# Altium schematic symbol library Personal_Schematic_Library_2022.SchLib: 863 symbols (part 6 of 8)
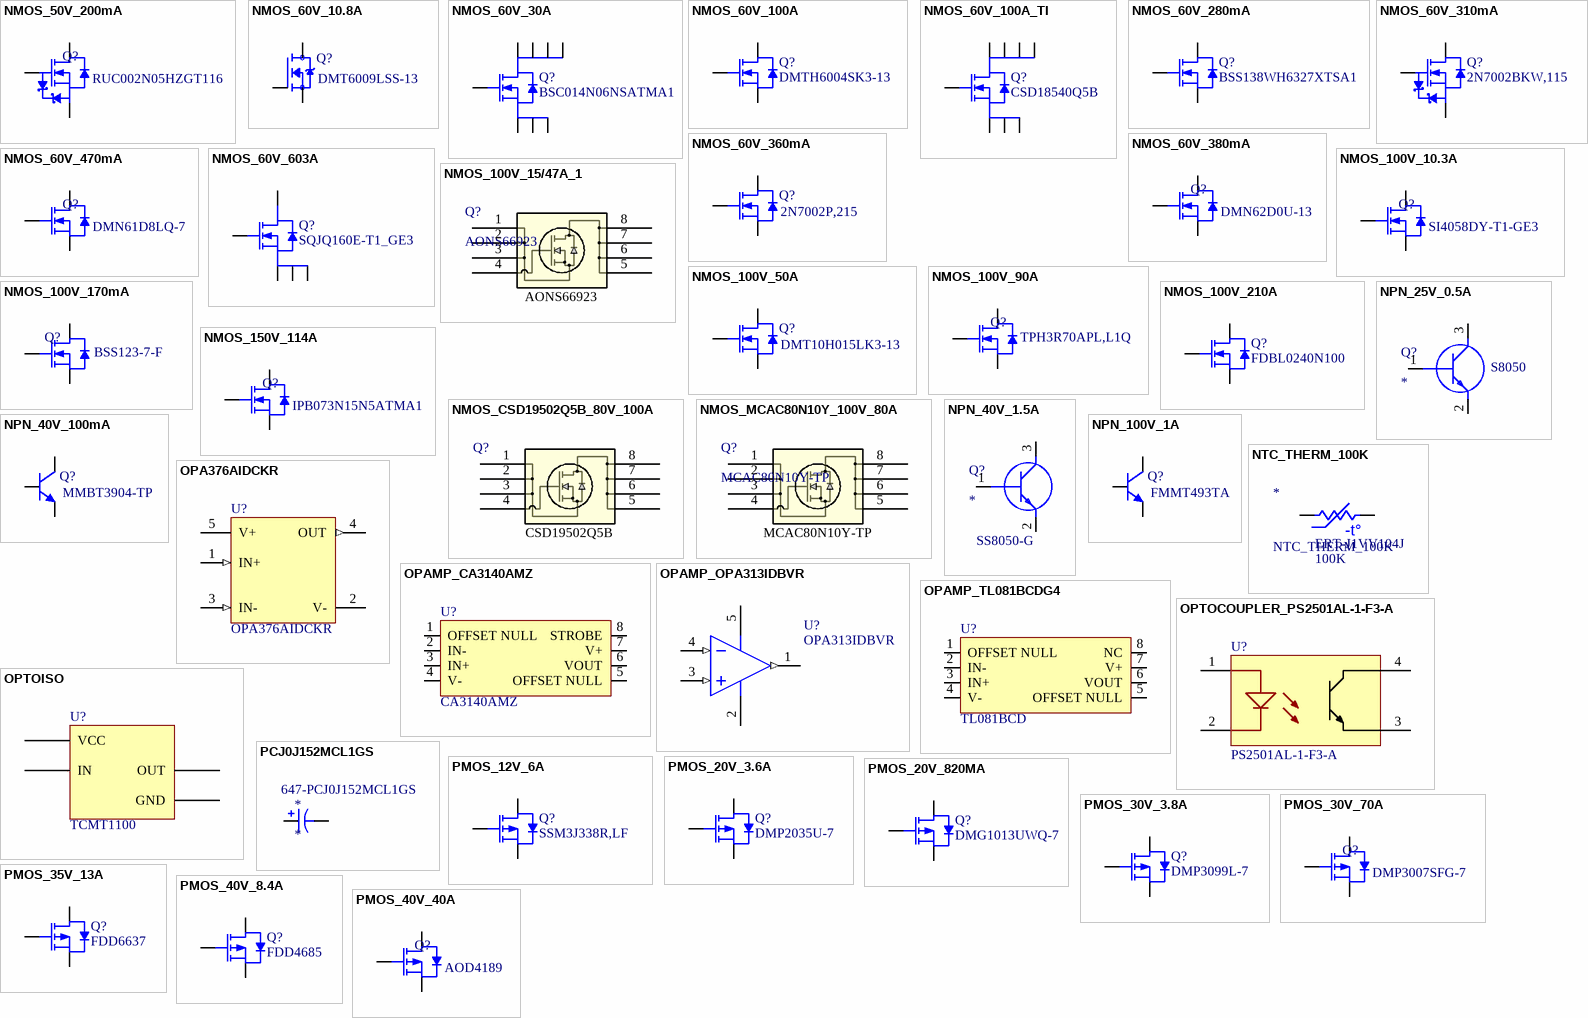
[diagram p34: symbols NMOS_50V_200mA to PMOS_40V_40A]

## NPN_100V_1A
designator Q?  Manufacturer Part Number 1: FMMT493TA
TRANS NPN 100V 1A SOT23-3; Manufacturer 1: Diodes Incorporated; Package: SOT-23-3; Supplier Part Number 1: FMMT493CT-ND; Supplier 1: Digi-Key
footprint SOT23-3 (SOT23, 3-Leads, Body 2.90x2.30mm, Pitch 0.95mm, IPC Medium Density)
pins: 1 B, 2 E, 3 C

## NTC_THERM_100K
designator *  value 100K  Manufacturer Part Number 1: ERT-J1VV104J
THERM NTC 100KOHM 4700K 0603; Manufacturer 1: Panasonic; Supplier Part Number 1: P10555CT-ND; Supplier 1: Digi-Key
footprint RESC0603(1608)_N (Chip Resistor, Body 1.6x0.8mm, IPC Medium Density)
pins: 1, 2
text: -t°

## OPA376AIDCKR
designator U?  Manufacturer Part Number 1: OPA376AIDCKR
IC OPAMP GP 1 CIRCUIT SC70-5; Manufacturer 1: Texas Instruments; Package/Footprint: 5-TSSOP; Operating Temperature: -40°C - 125°C; Supplier 1: Digi-Key; Supplier Part Number 1: 296-35916-1-ND
footprint TI_SC-70-5
pins: 1 IN+ (in), 2 V- (power), 3 IN- (in), 4 OUT (out), 5 V+ (power)

## OPAMP_CA3140AMZ
designator U?  Manufacturer Part Number 1: CA3140AMZ
IC OPAMP GP 1 CIRCUIT 8SOIC; Manufacturer 1: Renesas Electronics America Inc.; Supplier Part Number 1: CA3140AMZ-ND; Supplier 1: Digi-Key
footprint CA3140AMZ
pins: 1 OFFSET NULL, 2 IN-, 3 IN+, 4 V-, 5 OFFSET NULL, 6 VOUT, 7 V+, 8 STROBE

## OPAMP_OPA313IDBVR
designator U?  Manufacturer Part Number 1: OPA313IDBVR
IC OPAMP GP 1 CIRCUIT SOT23-5; Manufacturer 1: Texas Instruments; Package: SOT-23-5; Mounting Type: SMD; Supplier Part Number 1: 296-35607-1-ND; Supplier 1: Digi-Key; Verified: No
footprint DBV0005A_M (SOT23, 5-Leads, Body 3.05x1.75mm, Pitch 0.95mm, IPC Low Density)
pins: 1 OUT (out), 2 V- (power), 3 IN+ (in), 4 IN- (in), 5 V+ (power)

## OPAMP_TL081BCDG4
designator U?  Manufacturer Part Number 1: TL081BCD
IC OPAMP JFET 3MHZ 8SOIC; Manufacturer 1: Texas Instruments; Package/Footprint: 8-SOIC; Supplier Part Number 1: 296-34259-5-ND; Supplier 1: Digi-Key; Mounting Type: SMD; Verified: No
footprint TL081BCDG4
pins: 1 OFFSET NULL, 2 IN-, 3 IN+, 4 V-, 5 OFFSET NULL, 6 VOUT, 7 V+, 8 NC

## OPTOCOUPLER_PS2501AL-1-F3-A
designator U?  Manufacturer Part Number 1: PS2501AL-1-F3-A
OPTOISOLATOR 5KV TRANS 4SMD; Manufacturer 1: Renesas Electronics America Inc; Supplier 1: Digi-Key; Supplier Part Number 1: 559-1074-1-ND
footprint DIP-4L_REN
pins: 1 Anode "Low voltage source", 2 Cathode "High voltage signal in", 3 Emitter, 4 Collector "Low voltage signal out"

## OPTOISO
designator U?  Manufacturer Part Number 1: TCMT1100
OPTOISOLATOR 1 CHANNEL 4-SOP; Manufacturer 1: Vishay Semiconductor Opto Division; Supplier 1: Digi-Key; Supplier Part Number 1: TCMT1100TR-ND
footprint SOP-4L_TC
pins: 1 IN "High voltage signal in", 2 GND, 3 OUT "Low voltage signal out", 4 VCC "Low voltage source"

## PCJ0J152MCL1GS
designator *  Supplier Part Number 1: 647-PCJ0J152MCL1GS
Supplier 1: Mouser
footprint CAPAE1030X1080N
pins: 1, 2

## PMOS_12V_6A
designator Q?  Manufacturer Part Number 1: SSM3J338R,LF  (hidden comment: *)
MOSFET P-CH 12V 6A SOT23F; Manufacturer 1: Toshiba Semiconductor and Storage; Supplier 1: Digi-Key; Supplier Part Number 1: SSM3J338RLFCT-ND
footprint DIO-INC_SOT23
pins: 1 Gate, 2 Source, 3 Drain

## PMOS_20V_3.6A
designator Q?  Manufacturer Part Number 1: DMP2035U-7  (hidden comment: *)
MOSFET P-CH 20V 3.6A SOT23-3; Manufacturer 1: Diodes Incorporated; Supplier 1: Digi-Key; Supplier Part Number 1: DMP2035U-7DICT-ND
footprint DIO-INC_SOT23
pins: 1 Gate, 2 Source, 3 Drain

## PMOS_20V_820MA
designator Q?  Manufacturer Part Number 1: DMG1013UWQ-7
MOSFET P-CH 20V 820MA SOT323; Manufacturer 1: Diodes; Supplier 1: Digi-Key; Supplier Part Number 1: DMG1013UWQ-7DICT-ND
footprint SOT323
pins: 1 Drain, 2 Gate, 3 Source

## PMOS_30V_3.8A
designator Q?  Manufacturer Part Number 1: DMP3099L-7  (hidden comment: *)
MOSFET P-CH 30V 3.8A SOT23; Manufacturer 1: Diodes Incorporated; Supplier 1: Digi-Key; Supplier Part Number 1: DMP3099L-7DICT-ND
footprint DIO-INC_SOT23
pins: 1 Gate, 2 Source, 3 Drain

## PMOS_30V_70A
designator Q?  Manufacturer Part Number 1: DMP3007SFG-7
MOSFET P-CH 30V 70A POWERDI3333; Manufacturer 1: Diodes Incorporated; Vgs (Max): 25V; Power Dissipation (Max): 2.8W (Ta); Package/Footprint: PowerDI3333-8; Supplier 1: Digi-Key; Supplier Part Number 1: DMP3007SFG-7DICT-ND; Vdss: 30V; Mounting Type: SMD; Verified: No; Id: 70A
footprint DMP3007SFG-7
pins: 1 Drain, 2 Gate, 3 Source

## PMOS_35V_13A
designator Q?  Manufacturer Part Number 1: FDD6637
MOSFET P-CH 35V 13A DPAK; Manufacturer 1: ON Semiconductor / Fairchild; Rds On Max: 11.6mR; Input Capacitance: 2.37nF; Max Power Dissipation: 57W; Rise Time: 10ns; Fall Time: 36ns; Turn-Off Delay Time: 62ns; Turn-On Delay Time: 18ns; Gate to Source Voltage (Vgs): 25V; Element Configuration: Single; Number of Elements: 1; Power Dissipation: 3.1W; Drain to Source Breakdown Voltage: -35V; Threshold Voltage: -1.6V; Continuous Drain Current (ID): 55A; Supplier 1: Digi-Key; Number of Pins: 3; Drain to Source Voltage (Vdss): 35V; Drain to Source Resistance: 11.6mR; Nominal Vgs: -1.6V; On-State Resistance: 11.6MR; Supplier Part Number 1: FDD6637CT-ND
footprint D-PAK2 (TO-252AA)
pins: 1 Drain, 2 Gate, 3 Source

## PMOS_40V_8.4A
designator Q?  Manufacturer Part Number 1: FDD4685
MOSFET P-CH 40V 8.4A D-PAK; Manufacturer 1: ON Semiconductor / Fairchild; Vgs (Max): ±20V; Supplier 1: Digi-Key; Mounting Type: SMD; Package/Footprint: D-PAK; Supplier Part Number 1: FDD4685CT-ND; Current - Continuous Drain (Id) @ 25°C: 8.4A; Drain to Source Voltage (Vdss): 40V; Verified: No
footprint D-PAK (TO-252AA)
pins: 1 Drain, 2 Gate, 3 Source

## PMOS_40V_40A
designator Q?  Manufacturer Part Number 1: AOD4189
MOSFET P-CH 40V 40A TO252; Manufacturer 1: Alpha & Omega Semiconductor Inc.; Vgs (Max): 20V; Package/Footprint: D-Pak; Supplier 1: Digi-Key; Supplier Part Number 1: 785-1351-1-ND; Drain to Source Voltage (Vdss): 40V; Mounting Type: SMD; Verified: No; LCSC Part #: *; Id: 40A
footprint D-PAK (TO-252AA)
pins: 1 Drain, 2 Gate, 3 Source

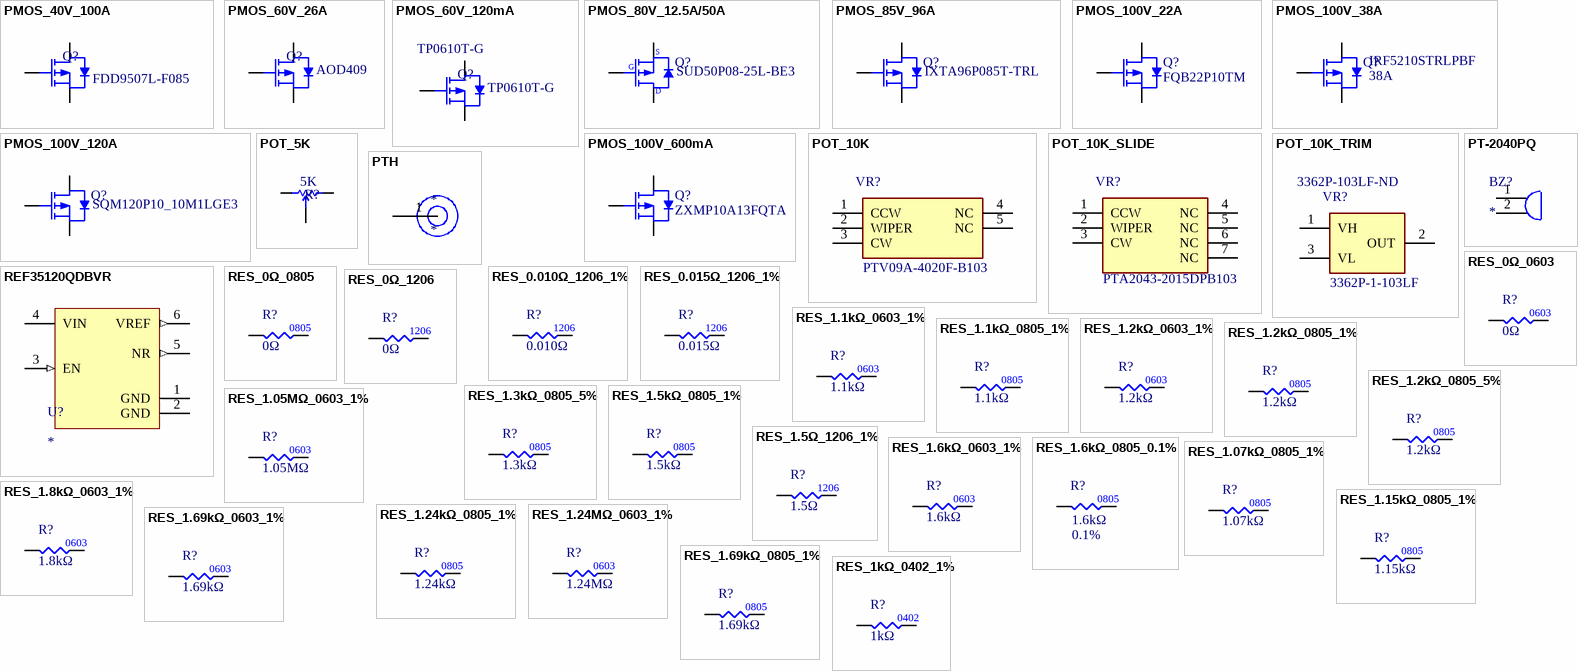
[diagram p20: symbols PMOS_40V_100A to RES_1kΩ_0402_1%]

## PMOS_40V_100A
designator Q?  Manufacturer Part Number 1: FDD9507L-F085
MOSFET P-CH 40V 100A D-PAK 4.4MOHM; Manufacturer 1: ON Semiconductor; Vgs (Max): 16V; Power Dissipation (Max): 227W; Supplier 1: Digi-Key; Supplier Part Number 1: FDD9507L-F085OSCT-ND; Vdss: 40V; Package/Footprint: D-PAK; Mounting Type: SMD; Verified: No; Id: 100A
footprint D-PAK (TO-252AA)
pins: 1 Drain, 2 Gate, 3 Source

## PMOS_60V_26A
designator Q?  Manufacturer Part Number 1: AOD409
MOSFET P-CH 60V 26A TO252; Manufacturer 1: Alpha & Omega Semiconductor Inc.; Vgs (Max): ±20V; Vdss: 60V; Mounting Type: SMD; Id: 26A; Supplier 1: Digi-Key; Supplier Part Number 1: 785-1103-1-ND
footprint TO-252 AOSMD
pins: 1 Gate, 2 Drain, 3 Source

## PMOS_60V_120mA
designator Q?  Manufacturer Part Number 1: TP0610T-G
MOSFET P-CH 60V 120MA TO236AB; Manufacturer 1: Microchip Technology; Vgs (Max): ±20V; Package/Footprint: SOT-23; Vdss: 60V; Mounting Type: SMD; Id: 120mA; Supplier 1: Arrow Electronics; Supplier Part Number 1: TP0610T-G
footprint SOT23-3 (SOT23, 3-Leads, Body 2.90x2.30mm, Pitch 0.95mm, IPC Medium Density)
pins: 1 Gate, 2 Source, 3 Drain

## PMOS_80V_12.5A/50A
designator Q?  Manufacturer Part Number 1: SUD50P08-25L-BE3
MOSFET P-CH 80V 12.5A/50A DPAK; Manufacturer 1: Vishay Siliconix; Package/Footprint: TO-252AA; Id: 50A; Vgs (Max): ±20V; Mounting Type: SMD; Vdss: 80V; Supplier 1: Digi-Key; Supplier Part Number 1: 742-SUD50P08-25L-BE3CT-ND
footprint TO-252AA VISHAY
pins: 1 G, 2 D, 3 S

## PMOS_85V_96A
designator Q?  Manufacturer Part Number 1: IXTA96P085T-TRL
MOSFET P-CH 85V 96A TO263; Manufacturer 1: IXYS; Package/Footprint: TO-263AA; Vgs (Max): ±15V; Mounting Type: SMD; Verified: No; Supplier 1: Digi-Key; Supplier Part Number 1: IXTA96P085T-TRLCT-ND; Id: 96A; Vdss: 85V
footprint D-PAK (TO-252AA)
pins: 1 Drain, 2 Gate, 3 Source

## PMOS_100V_22A
designator Q?  Manufacturer Part Number 1: FQB22P10TM
MOSFET P-CH 100V 22A D2PAK; Manufacturer 1: ON Semiconductor / Fairchild; Supplier Part Number 1: FQB22P10TMCT-ND; Package/Footprint: D2PAK; Supplier 1: Digi-Key; Mounting Type: SMD; Verified: No
simulation model PMOS (MOSFET-P)
footprint SOT404
pins: 1 Drain, 2 Gate, 3 Source

## PMOS_100V_38A
designator Q?  Current - Continous Drain: 38A  Manufacturer Part Number 1: IRF5210STRLPBF
MOSFET P-CH 100V 38A D2PAK; Manufacturer 1: Vishay Siliconix; Vgs (Max): ±15V; Id: 120A; Mounting Type: SMD; Verified: No; Vdss: 100V; Supplier 1: Digi-Key; Supplier Part Number 1: IRF5210STRLPBFCT-ND; Package/Footprint: D2Pak
footprint DPAK5_PMOS_FOOTPRINT
pins: 1 Gate, 2 Drain, 3 Source

## PMOS_100V_120A
designator Q?  Manufacturer Part Number 1: SQM120P10_10M1LGE3
MOSFET P-CH 100V 120A TO263; Manufacturer 1: Vishay Siliconix; Package/Footprint: TO-263; Vgs (Max): ±15V; Mounting Type: SMD; Verified: No; Id: 120A; Vdss: 100V; Supplier 1: Digi-Key; Supplier Part Number 1: IXTA96P085T-ND
footprint D-PAK (TO-252AA)
pins: 1 Drain, 2 Gate, 3 Source

## PMOS_100V_600mA
designator Q?  Manufacturer Part Number 1: ZXMP10A13FQTA
MOSFET P-CH 100V 600MA SOT23; Manufacturer 1: Diodes Incorporated; Package/Footprint: SOT-23-3; Supplier Part Number 1: ZXMP10A13FQTADICT-ND; Supplier 1: Digi-Key; Mounting Type: SMD
footprint SOT23-3 (SOT23, 3-Leads, Body 2.90x2.30mm, Pitch 0.95mm, IPC Medium Density)
pins: 1 Gate, 2 Source, 3 Drain

## POT_5K
designator R?  value 5K
TRIMMER 5K OHM 0.5W PC PIN TOP; Manufacturer Part Number 1: 3362P-1-502LF; Manufacturer 1: Bourns Inc.; Supplier Part Number 1: 3362P-502LF-ND; Supplier 1: Digi-Key
signal-integrity model Res
footprint 3362P-1-502LF
pins: 1, 2, 3

## POT_10K
designator VR?  Manufacturer Part Number 1: PTV09A-4020F-B103
POT 10K OHM 1/20W CARBON LINEAR; Manufacturer 1: Bourns; Supplier 1: Digi-Key; Supplier Part Number 1: PTV09A-4020F-B103-ND
footprint PTV09A4020FB103
pins: 1 CCW, 2 WIPER, 3 CW, 4 NC, 5 NC

## POT_10K_SLIDE
designator VR?  Manufacturer Part Number 1: PTA2043-2015DPB103
SLIDE POT 10K OHM 0.1W TOP 20MM; Manufacturer 1: Bourns; Supplier 1: Digi-Key; Supplier Part Number 1: PTA2043-2015DPB103-ND
footprint PTA20432015CPB103
pins: 1 CCW, 2 WIPER, 3 CW, 4 NC, 5 NC, 6 NC, 7 NC

## POT_10K_TRIM
designator VR?  Manufacturer Part Number 1: 3362P-1-103LF  Supplier Part Number 1: 3362P-103LF-ND
TRIMMER 10K OHM 0.5W PC PIN TOP; Manufacturer 1: Bourns Inc.; Resistance: 10kΩ; Supplier 1: DigiKey
footprint TRIMPOT_3362
pins: 1 VH, 2 OUT, 3 VL

## PT-2040PQ
designator BZ?
Loudspeaker or Buzzer; Manufacturer_Name: Mallory Sonalert; Manufacturer_Part_Number: PT-2040PQ; Datasheet Link: https://datasheet.datasheetarchive.com/originals/distributors/SFDatasheet-1/sf-00027599.pdf; Height: 9.4mm; Mouser Part Number: 539-PT2040PQ; Mouser Price/Stock: https://www.mouser.co.uk/ProductDetail/Mallory-Sonalert/PT-2040PQ?qs=l%2Fkuw%2F8%252BD9j2AVf7eGaf%252BA%3D%3D
footprint PT2040PQ
pins: 1, 2

## PTH
designator *
footprint PTH (Plated Through Hole)
pins: 1

## REF35120QDBVR
designator U?
IC VREF SERIES 1.2V SOT23-6; Manufacturer 1: Texas Instruments; Manufacturer Part Number 1: REF35120QDBVR; Package/Footprint: SOT-23-6; Supplier 1: Digi-Key; Supplier Part Number 1: 296-REF35120QDBVRCT-ND; LCSC Part #: C5722646
footprint SOT23-6 (SOT23, 6-Leads, Body 3.05x1.75mm, Pitch 0.95mm, IPC Medium Density)
pins: 1 GND (power), 2 GND (power), 3 EN (in), 4 VIN (power), 5 NR (out), 6 VREF (out)

## RES_0.010Ω_1206_1%
designator R?  value 0.010Ω
RES 0.01 OHM 1% 1/2W 1206; Manufacturer 1: Stackpole Electronics Inc; Manufacturer Part Number 1: CSR1206FT10L0; Package/Footprint: 1206; Mounting Type: SMD; Supplier 1: Digi-Key; Supplier Part Number 1: CSR1206FT10L0CT-ND
footprint RES1206 (Chip Resistor, Body 3.2x1.6mm, IPC Medium Density)
pins: 1, 2

## RES_0.015Ω_1206_1%
designator R?  value 0.015Ω
RES 0.015 OHM 1% 1/2W 1206; Manufacturer 1: Rohm Semiconductor; Manufacturer Part Number 1: UCR18EVHFSR015; Supplier 1: Digi-Key; Supplier Part Number 1: RHM1305CT-ND; Package: 1206
footprint RES1206 (Chip Resistor, Body 3.2x1.6mm, IPC Medium Density)
pins: 1, 2

## RES_0Ω_0603
designator R?  value 0Ω
RES 0 OHM JUMPER 1/10W 0603; Manufacturer 1: Yageo; Manufacturer Part Number 1: RC0603JR-070RL; Supplier Part Number 1: 311-0.0GRCT-ND; Supplier 1: Digi-Key; Mounting Type: SMD; Package: 0603
footprint RES0603 (Chip Resistor, Body 1.6x0.8mm, IPC Medium Density)
pins: 1, 2

## RES_0Ω_0805
designator R?  value 0Ω
RES SMD 0 OHM JUMPER 1/2W 0805 (20A RATED); Manufacturer 1: Keystone Electronics; Manufacturer Part Number 1: 5106; Package/Footprint: 0805; Supplier Part Number 1: 36-5106CT-ND; Supplier 1: Digi-Key; Mounting Type: SMD
footprint RES0805 (Chip Resistor, 2-Leads, Body 2.00x1.25mm, IPC High Density)
pins: 1, 2

## RES_0Ω_1206
designator R?  value 0Ω
RES 0 OHM JUMPER 1/10W 1206; Manufacturer 1: Yageo; Manufacturer Part Number 1: RC1206JR-070RL; Package/Footprint: 1206; Supplier Part Number 1: 311-0.0ERCT-ND; Supplier 1: Digi-Key; Mounting Type: SMD
footprint RES1206 (Chip Resistor, Body 3.2x1.6mm, IPC Medium Density)
pins: 1, 2

## RES_1.1kΩ_0603_1%
designator R?  value 1.1kΩ
RES 1.1K OHM 1% 1/10W 0603; Manufacturer 1: Yageo; Manufacturer Part Number 1: RC0603FR-071K1L; Supplier Part Number 1: 311-1.10KHRCT-ND; Supplier 1: Digi-Key; Mounting Type: SMD; Package: 0603
footprint RES0603 (Chip Resistor, Body 1.6x0.8mm, IPC Medium Density)
pins: 1, 2

## RES_1.1kΩ_0805_1%
designator R?  value 1.1kΩ
RES 1.1K OHM 1% 1/8W 0805; Manufacturer 1: Yageo; Manufacturer Part Number 1: RC0805FR-071K1L; Supplier 1: Digi-Key; Supplier Part Number 1: 311-1.10KCRCT-ND
footprint RES0805 (Chip Resistor, 2-Leads, Body 2.00x1.25mm, IPC High Density)
pins: 1, 2
text: 0805

## RES_1.2kΩ_0603_1%
designator R?  value 1.2kΩ
RES 1.2K OHM 1% 1/10W 0603; Manufacturer 1: Yageo; Manufacturer Part Number 1: RC0603FR-071K2L; Supplier 1: Digi-Key; Supplier Part Number 1: 311-1.20KHRCT-ND; Package: 0603
footprint RES0603 (Chip Resistor, Body 1.6x0.8mm, IPC Medium Density)
pins: 1, 2

## RES_1.2kΩ_0805_1%
designator R?  value 1.2kΩ
RES 1.2K OHM 1% 1/8W 0805; Manufacturer 1: Samsung Electro-Mechanics; Manufacturer Part Number 1: RC2012F122CS; Supplier 1: Digi-Key; Supplier Part Number 1: 1276-5275-2-ND; Package: 0805
footprint RES0805 (Chip Resistor, 2-Leads, Body 2.00x1.25mm, IPC High Density)
pins: 1, 2

## RES_1.2kΩ_0805_5%
designator R?  value 1.2kΩ
RES 1.2K OHM 5% 1/8W 0805; Manufacturer 1: Yageo; Manufacturer Part Number 1: RC0805JR-071K2L; Supplier 1: Digi-Key; Supplier Part Number 1: 311-1.2KARCT-ND; Tolerance: 5%; Package: 0805
footprint RES0805 (Chip Resistor, 2-Leads, Body 2.00x1.25mm, IPC High Density)
pins: 1, 2
1 alternate drawing of the same symbol

## RES_1.3kΩ_0805_5%
designator R?  value 1.3kΩ
RES 1.3K OHM 5% 1/8W 0805; Manufacturer 1: Yageo; Manufacturer Part Number 1: RC0805JR-071K3L; Supplier 1: Digi-Key; Supplier Part Number 1: 311-1.3KARCT-ND; Tolerance: 5%; Package: 0805
footprint RES0805 (Chip Resistor, 2-Leads, Body 2.00x1.25mm, IPC High Density)
pins: 1, 2
1 alternate drawing of the same symbol

## RES_1.5kΩ_0805_1%
designator R?  value 1.5kΩ
RES 1.5K OHM 1% 1/4W 0805; Manufacturer Part Number 1: RC0805FR-071K5L; Manufacturer 1: Stackpole Electronics Inc; Power: 0.125W, 1/8W; Supplier 1: Digi-Key; Supplier Part Number 1: 311-1.50KCRCT-ND; Mounting Type: SMD; Package: 0805; Tolerance: 1%
footprint RES0805 (Chip Resistor, 2-Leads, Body 2.00x1.25mm, IPC High Density)
pins: 1, 2

## RES_1.05MΩ_0603_1%
designator R?  value 1.05MΩ
RES SMD 1.05M OHM 1% 1/10W 0603; Manufacturer 1: Stackpole Electronics Inc; Manufacturer Part Number 1: RMCF0603FT1M05; Supplier Part Number 1: RMCF0603FT1M05CT-ND; Supplier 1: Digi-Key; Mounting Type: SMD; Package: 0603
footprint RES0603 (Chip Resistor, Body 1.6x0.8mm, IPC Medium Density)
pins: 1, 2

## RES_1.5Ω_1206_1%
designator R?  value 1.5Ω
RES 1.5 OHM 1% 1/4W 1206; Manufacturer Part Number 1: RMCF1206FT1R50; Manufacturer 1: Stackpole Electronics Inc; Supplier 1: Digi-Key; Supplier Part Number 1: RMCF1206FT1R50CT-ND; Mounting Type: SMD; Power: 1/4W; Package: 1206; Tolerance: 1%
footprint RES1206 (Chip Resistor, Body 3.2x1.6mm, IPC Medium Density)
pins: 1, 2

## RES_1.6kΩ_0603_1%
designator R?  value 1.6kΩ
RES 1.6K OHM 1% 1/4W 0603; Manufacturer 1: Panasonic; Manufacturer Part Number 1: ERJ-PA3F1601V; Supplier 1: Digi-Key; Supplier Part Number 1: P1.6KBYCT-ND; Mounting Type: SMD; Package: 0603
footprint RES0603 (Chip Resistor, Body 1.6x0.8mm, IPC Medium Density)
pins: 1, 2

## RES_1.6kΩ_0805_0.1%
designator R?  value 1.6kΩ  Tolerance: 0.1%
RES 1.6K OHM 0.1% 1/4W 0805; Manufacturer 1: Panasonic; Manufacturer Part Number 1: ERJ-PB6B1601V; Supplier 1: Digi-Key; Supplier Part Number 1: P20615CT-ND; Mounting Type: SMD
footprint RES0805 (Chip Resistor, 2-Leads, Body 2.00x1.25mm, IPC High Density)
pins: 1, 2
text: 0805

## RES_1.07kΩ_0805_1%
designator R?  value 1.07kΩ
RES 1.07K OHM 1% 1/8W 0805; Manufacturer 1: Yageo; Manufacturer Part Number 1: RC0805FR-071K07L; Supplier 1: Digi-Key; Mounting Type: SMD; Supplier Part Number 1: 311-1.07KCRCT-ND; Package: 0805
footprint RES0805 (Chip Resistor, 2-Leads, Body 2.00x1.25mm, IPC High Density)
pins: 1, 2

## RES_1.8kΩ_0603_1%
designator R?  value 1.8kΩ
RES 1.8K OHM 1% 1/10W 0603; Manufacturer 1: Yageo; Manufacturer Part Number 1: RC0603FR-071K8L; Package: 0603; Supplier 1: Digikey; Supplier Part Number 1: 311-1.80KHRCT-ND
footprint RES0603 (Chip Resistor, Body 1.6x0.8mm, IPC Medium Density)
pins: 1, 2

## RES_1.15kΩ_0805_1%
designator R?  value 1.15kΩ
RES 1.15K OHM 1% 1/8W 0805; Manufacturer 1: Yageo; Manufacturer Part Number 1: RC0805FR-071K15L; Package/Footprint: 0805; Mounting Type: SMD; Supplier 1: Digi-Key; Supplier Part Number 1: 311-1.15KCRCT-ND
footprint RES0805 (Chip Resistor, 2-Leads, Body 2.00x1.25mm, IPC High Density)
pins: 1, 2

## RES_1.24kΩ_0805_1%
designator R?  value 1.24kΩ
RES 1.24K OHM 1% 1/8W 0805; Manufacturer 1: Stackpole Electronics Inc; Manufacturer Part Number 1: RMCF0805FT1K24; Package/Footprint: 0805; Mounting Type: SMD; Supplier 1: Digi-Key; Supplier Part Number 1: RMCF0805FT1K24CT-ND
footprint RES0805 (Chip Resistor, 2-Leads, Body 2.00x1.25mm, IPC High Density)
pins: 1, 2

## RES_1.24MΩ_0603_1%
designator R?  value 1.24MΩ
RES 1.24M OHM 1% 1/16W 0402; Manufacturer 1: Stackpole Electronics Inc; Manufacturer Part Number 1: RMCF0402FT1M24; Package: 0603; Supplier 1: Digi-Key; Supplier Part Number 1: RMCF0402FT1M24CT-ND
footprint RES0603 (Chip Resistor, Body 1.6x0.8mm, IPC Medium Density)
pins: 1, 2

## RES_1.69kΩ_0603_1%
designator R?  value 1.69kΩ
RES 1.69K OHM 1% 1/10W 0603; Manufacturer 1: Yageo; Manufacturer Part Number 1: RC0603FR-071K69L; Supplier 1: Digi-Key; Supplier Part Number 1: 311-1.69KHRCT-ND
footprint RES0603 (Chip Resistor, Body 1.6x0.8mm, IPC Medium Density)
pins: 1, 2
text: 0603

## RES_1.69kΩ_0805_1%
designator R?  value 1.69kΩ
RES 1.69K OHM 1% 1/8W 0805; Manufacturer 1: Stackpole Electronics Inc; Manufacturer Part Number 1: RMCF0805FT1K69; Supplier 1: Digi-Key; Supplier Part Number 1: RMCF0805FT1K69CT-ND; Mounting Type: SMD; LCSC Part #: C48183; Package: 0805
footprint RES0805 (Chip Resistor, 2-Leads, Body 2.00x1.25mm, IPC High Density)
pins: 1, 2

## RES_1kΩ_0402_1%
designator R?  value 1kΩ
RES 1K OHM 1% 1/16W 0402; Manufacturer 1: Stackpole Electronics; Manufacturer Part Number 1: RMCF0402FT1K00; Supplier 1: Digi-Key; Supplier Part Number 1: RMCF0402FT1K00CT-ND; Tolerance: 1%; Package: 0402
footprint RES0402
pins: 1, 2

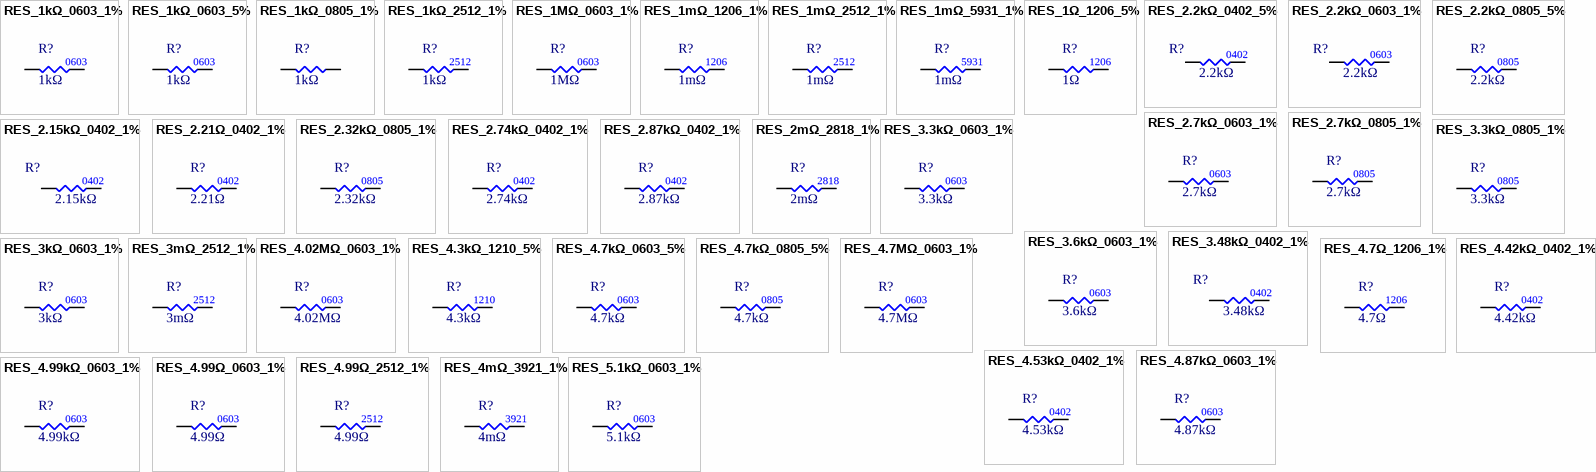
[diagram p21: symbols RES_1kΩ_0603_1% to RES_5.1kΩ_0603_1%]

## RES_1kΩ_0603_1%
designator R?  value 1kΩ
RES 1K OHM 1% 1/8W 0603; Manufacturer 1: Stackpole Electronics Inc; Manufacturer Part Number 1: RNCP0603FTD1K00; Supplier Part Number 1: RNCP0603FTD1K00CT-ND; Supplier 1: Digi-Key; Mounting Type: SMD; Package: 0603
footprint RES0603 (Chip Resistor, Body 1.6x0.8mm, IPC Medium Density)
pins: 1, 2

## RES_1kΩ_0603_5%
designator R?  value 1kΩ
RES 1K OHM 5% 1/10W 0603; Manufacturer 1: Yageo; Manufacturer Part Number 1: RC0603JR-071KL; Supplier Part Number 1: 311-1.0KGRCT-ND; Supplier 1: Digi-Key; Mounting Type: SMD; Package: 0603
footprint RES0603 (Chip Resistor, Body 1.6x0.8mm, IPC Medium Density)
pins: 1, 2

## RES_1kΩ_0805_1%
designator R?  value 1kΩ
RES 1K OHM 1% 1/8W 0805; Manufacturer 1: Stackpole Electronics Inc; Manufacturer Part Number 1: RMCF0805FT1K00; Mounting Type: SMD; Package: 0805; Supplier 1: Digi-Key; Supplier Part Number 1: RMCF0805FT1K00CT-ND
footprint RES0805 (Chip Resistor, 2-Leads, Body 2.00x1.25mm, IPC High Density)
pins: 1, 2

## RES_1kΩ_2512_1%
designator R?  value 1kΩ
RES SMD 1K OHM 1% 3W 2512; Manufacturer 1: TE Connectivity Passive Product; Manufacturer Part Number 1: 35221K0FT; Supplier Part Number 1: A121161CT-ND; Supplier 1: Digi-Key; Mounting Type: SMD; Package: 2512
footprint RES2512
pins: 1, 2

## RES_1MΩ_0603_1%
designator R?  value 1MΩ
RES 1M OHM 1% 1/10W 0603; Manufacturer 1: YAGEO; Manufacturer Part Number 1: RC0603FR-071ML; Supplier Part Number 1: 311-1.00MHRCT-ND; Supplier 1: Digi-Key; Mounting Type: SMD; Package: 0603
footprint RES0603 (Chip Resistor, Body 1.6x0.8mm, IPC Medium Density)
pins: 1, 2

## RES_1mΩ_1206_1%
designator R?  value 1mΩ
RES 0.001 OHM 1% 1W 1206; Manufacturer 1: Delta Electronics/Cyntec; Manufacturer Part Number 1: RL1632T4F-R001-FNH; Package/Footprint: 1206; Mounting Type: SMD; Supplier 1: Digi-Key; Supplier Part Number 1: 2037-RL1632T4F-R001-FNHCT-ND
footprint RESC160320X70-RL1632T4F-R001-FNH
pins: 1, 2

## RES_1mΩ_2512_1%
designator R?  value 1mΩ
RES 1 mOHM 1% 3W 2512; Manufacturer 1: Riedon; Manufacturer Part Number 1: CSRL3-0R001F8; Supplier 1: Digi-Key; Supplier Part Number 1: 696-1834-1-ND; Mounting Type: SMD; Package: 2512
footprint RESC6532X75N
pins: 1, 2

## RES_1mΩ_5931_1%
designator R?  value 1mΩ
RES 0.001 OHM 1% 10W 5931; Manufacturer 1: Vishay Dale; Manufacturer Part Number 1: WSLP59311L000FEA; Supplier Part Number 1: 541-10012-1-ND; Supplier 1: Digi-Key; Mounting Type: SMD; Package: 5931
footprint RES-5931
pins: 1, 2

## RES_1Ω_1206_5%
designator R?  value 1Ω
RES 1 OHM 5% 1/4W 1206; Manufacturer 1: KOA Speer Electronics, Inc.; Manufacturer Part Number 1: RK73B2BTTE1R0J; Supplier 1: Digi-Key; Supplier Part Number 1: 2019-RK73B2BTTE1R0JCT-ND; Mounting Type: SMD; Package: 1206
footprint RES1206 (Chip Resistor, Body 3.2x1.6mm, IPC Medium Density)
pins: 1, 2

## RES_2.2kΩ_0402_5%
designator R?  value 2.2kΩ
RES 2.2K OHM 5% 1/10W 0402; Manufacturer 1: Panasonic Electronic Components; Manufacturer Part Number 1: ERJ-2GEJ222X; Supplier Part Number 1: P2.2KJCT-ND; Supplier 1: Digi-Key; Mounting Type: SMD; Package: 0402
footprint RES0402 (Chip Resistor, Body 1x0.5mm, IPC Medium Density)
pins: 1, 2

## RES_2.2kΩ_0603_1%
designator R?  value 2.2kΩ
RES 2.2K OHM 1% 1/10W 0603; Manufacturer 1: Yageo; Manufacturer Part Number 1: RC0603FR-072K2L; Supplier Part Number 1: 311-2.20KHRCT-ND; Supplier 1: Digi-Key; Mounting Type: SMD; Package: 0603
footprint RES0603 (Chip Resistor, Body 1.6x0.8mm, IPC Medium Density)
pins: 1, 2

## RES_2.2kΩ_0805_5%
designator R?  value 2.2kΩ
RES 2.2K OHM 5% 1/8W 0805; Manufacturer 1: Vishay Dale; Manufacturer Part Number 1: CRCW08052K20JNEAC; Supplier 1: Digi-Key; Supplier Part Number 1: 541-4169-1-ND; Tolerance: 5%; Package: 0805
footprint RES0805 (Chip Resistor, 2-Leads, Body 2.00x1.25mm, IPC High Density)
pins: 1, 2
1 alternate drawing of the same symbol

## RES_2.7kΩ_0603_1%
designator R?  value 2.7kΩ
RES 2.7K OHM 1% 1/10W 0603; Manufacturer 1: Yageo; Manufacturer Part Number 1: AC0603FR-072K7L; Supplier 1: Digi-Key; Supplier Part Number 1: YAG3589CT-ND
footprint RES0603 (Chip Resistor, Body 1.6x0.8mm, IPC Medium Density)
pins: 1, 2
text: 0603

## RES_2.7kΩ_0805_1%
designator R?  value 2.7kΩ
RES 2.7K OHM 1% 1/8W 0805; Manufacturer 1: Panasonic Electronic Components; Manufacturer Part Number 1: ERJ-6ENF2701V; Supplier 1: Digi-Key; Supplier Part Number 1: P2.70KCCT-ND; Mounting Type: SMD; LCSC Part #: C17530; Package: 0805
footprint RES0805 (Chip Resistor, 2-Leads, Body 2.00x1.25mm, IPC High Density)
pins: 1, 2

## RES_2.15kΩ_0402_1%
designator R?  value 2.15kΩ
RES 2.15K OHM 1% 1/16W 0402; Manufacturer Part Number 1: RC0402FR-072K15L; Manufacturer 1: Yageo; Power: 0.063W, 1/16W; Package/Footprint: 0402; Supplier 1: Digi-Key; Supplier Part Number 1: YAG3097CT-ND; Mounting Type: SMD; Tolerance: 1%
footprint RES0402 (Chip Resistor, Body 1x0.5mm, IPC Medium Density)
pins: 1, 2

## RES_2.21Ω_0402_1%
designator R?  value 2.21Ω
RES 2.21 OHM 1% 1/16W 0402; Manufacturer Part Number 1: RMCF0402FT2R21; Manufacturer 1: Yageo; Power: 0.063W, 1/16W; Package/Footprint: 0402; Supplier 1: Digi-Key; Supplier Part Number 1: RMCF0402FT2R21CT-ND; Mounting Type: SMD; Tolerance: 1%
footprint RES0402 (Chip Resistor, Body 1x0.5mm, IPC Medium Density)
pins: 1, 2

## RES_2.32kΩ_0805_1%
designator R?  value 2.32kΩ
RES 2.32K OHM 1% 1/4W 0805; Manufacturer 1: Stackpole Electronics Inc; Manufacturer Part Number 1: RNCP0805FTD2K32; Supplier 1: Digi-Key; Supplier Part Number 1: RNCP0805FTD2K32CT-ND; Package: 0805
footprint RES0805 (Chip Resistor, 2-Leads, Body 2.00x1.25mm, IPC High Density)
pins: 1, 2

## RES_2.74kΩ_0402_1%
designator R?  value 2.74kΩ
RES 2.74K OHM 1% 1/16W 0402; Manufacturer Part Number 1: RMCF0402FT2K74; Manufacturer 1: Stackpole Electronics Inc; Power: 0.063W, 1/16W; Package/Footprint: 0402; Supplier 1: Digi-Key; Supplier Part Number 1: RMCF0402FT2K74CT-ND; Mounting Type: SMD; Tolerance: 1%
footprint RES0402 (Chip Resistor, Body 1x0.5mm, IPC Medium Density)
pins: 1, 2

## RES_2.87kΩ_0402_1%
designator R?  value 2.87kΩ
RES SMD 2.87K OHM 1% 1/16W 0402; Manufacturer 1: Yageo; Manufacturer Part Number 1: RC0402FR-072K87L; Package/Footprint: 0402; Supplier 1: Digi-Key; Supplier Part Number 1: YAG3105CT-ND; Tolerance: 1%
footprint RES0402 (Chip Resistor, Body 1x0.5mm, IPC Medium Density)
pins: 1, 2

## RES_2mΩ_2818_1%
designator R?  value 2mΩ
RES 0.002 OHM 1% 10W 2818; Manufacturer 1: Vishay Dale; Manufacturer Part Number 1: WSHP28182L000FEA; Supplier 1: Digi-Key; Supplier Part Number 1: 541-3273-1-ND
footprint RES2812_VISHAY
pins: 1, 2
text: 2818

## RES_3.3kΩ_0603_1%
designator R?  value 3.3kΩ
RES 3.3K OHM 1% 1/10W 0603; Manufacturer 1: Yageo; Manufacturer Part Number 1: RT0603FRE073K3L; Supplier 1: Digi-Key; Supplier Part Number 1: YAG3354CT-ND; Mounting Type: SMD; Package: 0603
footprint RES0603 (Chip Resistor, Body 1.6x0.8mm, IPC Medium Density)
pins: 1, 2

## RES_3.3kΩ_0805_1%
designator R?  value 3.3kΩ
RES 3.3K OHM 1% 1/8W 0805; Manufacturer 1: Vishay Dale; Manufacturer Part Number 1: CRCW06033K30FKEA; Mounting Type: SMD; Supplier 1: Digi-Key; Supplier Part Number 1: 541-3.30KHCT-ND; LCSC Part #: C26010; Package: 0805
footprint RES0805 (Chip Resistor, 2-Leads, Body 2.00x1.25mm, IPC High Density)
pins: 1, 2

## RES_3.6kΩ_0603_1%
designator R?  value 3.6kΩ
RES 3.6K OHM 1% 1/10W 0603; Manufacturer 1: Yageo; Manufacturer Part Number 1: RC0603FR-073K6L; Mounting Type: SMD; Package: 0603; Supplier 1: Digi-Key; Supplier Part Number 1: 311-3.60KHRCT-ND
footprint RES0603 (Chip Resistor, Body 1.6x0.8mm, IPC Medium Density)
pins: 1, 2

## RES_3.48kΩ_0402_1%
designator R?  value 3.48kΩ
RES 3.48K OHM 1% 1/16W 0402; Manufacturer Part Number 1: RC0402FR-073K48L; Manufacturer 1: Vishay Dale; Power: 0.063W, 1/16W; Supplier 1: Digi-Key; Supplier Part Number 1: YAG3148CT-ND; Mounting Type: SMD; Package: 0402; Tolerance: 1%
footprint RES0402 (Chip Resistor, Body 1x0.5mm, IPC Medium Density)
pins: 1, 2

## RES_3kΩ_0603_1%
designator R?  value 3kΩ
RES 3K OHM 1% 1/10W 0603; Manufacturer 1: Yageo; Manufacturer Part Number 1: RC0603FR-073KL; Supplier 1: Digi-Key; Supplier Part Number 1: 311-3.00KHRCT-ND
footprint RES0603 (Chip Resistor, Body 1.6x0.8mm, IPC Medium Density)
pins: 1, 2
text: 0603

## RES_3mΩ_2512_1%
designator R?  value 3mΩ
RES 3 mOHM 1% 3W 2512; Manufacturer 1: Yageo; Manufacturer Part Number 1: PA2512FKF7T0R003E; Supplier 1: Digi-Key; Supplier Part Number 1: YAG5998CT-ND
pins: 1, 2
text: 2512

## RES_4.02MΩ_0603_1%
designator R?  value 4.02MΩ
RES SMD 4.02M OHM 1% 1/8W 0603; Manufacturer Part Number 1: CRCW06034M02FKEA; Manufacturer 1: Vishay Dale; Supplier Part Number 1: 541-4.02MHCT-ND; Supplier 1: Digi-Key
footprint RES0603 (Chip Resistor, Body 1.6x0.8mm, IPC Medium Density)
pins: 1, 2
text: 0603

## RES_4.3kΩ_1210_5%
designator R?  value 4.3kΩ
RES 4.3K OHM 5% 1/2W 1210; Manufacturer 1: Panasonic; Manufacturer Part Number 1: ERJ-14YJ432U; Supplier 1: Digi-Key; Mounting Type: SMD; Tolerance: 5%; Supplier Part Number 1: P4.3KVCT-ND; Package: 1210
footprint RES1210 (Chip Resistor, Body 3.20x2.50mm)
pins: 1, 2

## RES_4.7kΩ_0603_5%
designator R?  value 4.7kΩ
RES 4.7K OHM 5% 1/10W 0603; Manufacturer 1: Yageo; Manufacturer Part Number 1: RC0603JR-074K7L; Supplier Part Number 1: 311-4.7KGRCT-ND; Supplier 1: Digi-Key
footprint RES0603 (Chip Resistor, Body 1.6x0.8mm, IPC Medium Density)
pins: 1, 2
text: 0603

## RES_4.7kΩ_0805_5%
designator R?  value 4.7kΩ
RES 4.7K OHM 5% 1/8W 0805; Manufacturer 1: Yageo; Manufacturer Part Number 1: RC0805JR-074K7L; Supplier 1: Digi-Key; Supplier Part Number 1: 311-4.7KARCT-ND; Mounting Type: SMD; LCSC Part #: C17673; Package: 0805
footprint RES0805 (Chip Resistor, 2-Leads, Body 2.00x1.25mm, IPC High Density)
pins: 1, 2

## RES_4.7MΩ_0603_1%
designator R?  value 4.7MΩ
RES 4.7M OHM 1% 1/10W 0603; Manufacturer Part Number 1: RC0603FR-074M7L; Manufacturer 1: Yageo; Supplier Part Number 1: 311-4.70MHRCT-ND; Supplier 1: Digi-Key
footprint RES0603 (Chip Resistor, Body 1.6x0.8mm, IPC Medium Density)
pins: 1, 2
text: 0603

## RES_4.7Ω_1206_1%
designator R?  value 4.7Ω
RES 4.7 OHM 1% 1/2W 1206; Manufacturer 1: Stackpole Electronics Inc; Manufacturer Part Number 1: RNCP1206FTD4R70; Package/Footprint: 1206; Mounting Type: SMD; Supplier 1: Digi-Key; Supplier Part Number 1: RNCP1206FTD4R70CT-ND
footprint RES1206 (Chip Resistor, Body 3.2x1.6mm, IPC Medium Density)
pins: 1, 2

## RES_4.42kΩ_0402_1%
designator R?  value 4.42kΩ
RES 4.42K OHM 1% 1/16W 0402; Manufacturer Part Number 1: RMCF0402FT4K42; Manufacturer 1: Stackpole Electronics Inc; Power: 0.063W, 1/16W; Package/Footprint: 0402; Supplier 1: Digi-Key; Supplier Part Number 1: RMCF0402FT4K42CT-ND; Mounting Type: SMD; Tolerance: 1%
footprint RES0402 (Chip Resistor, Body 1x0.5mm, IPC Medium Density)
pins: 1, 2

## RES_4.53kΩ_0402_1%
designator R?  value 4.53kΩ
RES 4.53K OHM 1% 1/16W 0402; Manufacturer 1: Yageo; Manufacturer Part Number 1: RC0402FR-074K53L; Supplier 1: Digi-Key; Supplier Part Number 1: 311-4.53KLRCT-ND; Package: 0402; Tolerance: 1%
footprint RES0402 (Chip Resistor, Body 1x0.5mm, IPC Medium Density)
pins: 1, 2

## RES_4.87kΩ_0603_1%
designator R?  value 4.87kΩ
RES 4.87K OHM 1% 1/8W 0603; Manufacturer 1: Stackpole Electronics Inc; Manufacturer Part Number 1: RNCP0603FTD4K87; Supplier 1: Digi-Key; Mounting Type: SMD; Supplier Part Number 1: RNCP0603FTD4K87CT-ND; Package: 0603
footprint RES0603 (Chip Resistor, Body 1.6x0.8mm, IPC Medium Density)
pins: 1, 2

## RES_4.99kΩ_0603_1%
designator R?  value 4.99kΩ
RES 4.99K OHM 1% 1/10W 0603; Manufacturer 1: Stackpole Electronics Inc; Manufacturer Part Number 1: RMCF0603FT4K99; Mounting Type: SMD; Package: 0603; Supplier 1: Digikey; Supplier Part Number 1: RMCF0603FT4K99DKR-ND
footprint RES0603 (Chip Resistor, Body 1.6x0.8mm, IPC Medium Density)
pins: 1, 2

## RES_4.99Ω_0603_1%
designator R?  value 4.99Ω
RES 4.99 OHM 1% 1/10W 0603; Manufacturer 1: YAGEO; Manufacturer Part Number 1: RC0603FR-074R99L; Mounting Type: SMD; Package: 0603; Supplier 1: Digikey; Supplier Part Number 1: 311-4.99HRCT-ND
footprint RES0603 (Chip Resistor, Body 1.6x0.8mm, IPC Medium Density)
pins: 1, 2

## RES_4.99Ω_2512_1%
designator R?  value 4.99Ω
RES 4.99 OHM 1% 2W 2512; Manufacturer 1: Stackpole Electronics Inc; Manufacturer Part Number 1: RHC2512FT4R99; Supplier 1: Digi-Key; Supplier Part Number 1: RHC2512FT4R99CT-ND
footprint RES2512
pins: 1, 2
1 alternate drawing of the same symbol
text: 2512

## RES_4mΩ_3921_1%
designator R?  value 4mΩ
RES 0.004 OHM 1% 5W 3921; Manufacturer 1: Thin Film Technology Corp.; Manufacturer Part Number 1: D1CSA3921FR004F-T3; Supplier 1: DigiKey; Supplier Part Number 1: 4463-D1CSA3921FR004F-T3DKR-ND
footprint RES3921
pins: 1, 2
text: 3921

## RES_5.1kΩ_0603_1%
designator R?  value 5.1kΩ
RES 5.1K OHM 1% 1/10W 0603; Manufacturer 1: YAGEO; Manufacturer Part Number 1: RC0603FR-135K1L; Mounting Type: SMD; Package: 0603; Supplier 1: Digi-Key; Supplier Part Number 1: 13-RC0603FR-135K1LCT-ND
footprint RES0603 (Chip Resistor, Body 1.6x0.8mm, IPC Medium Density)
pins: 1, 2

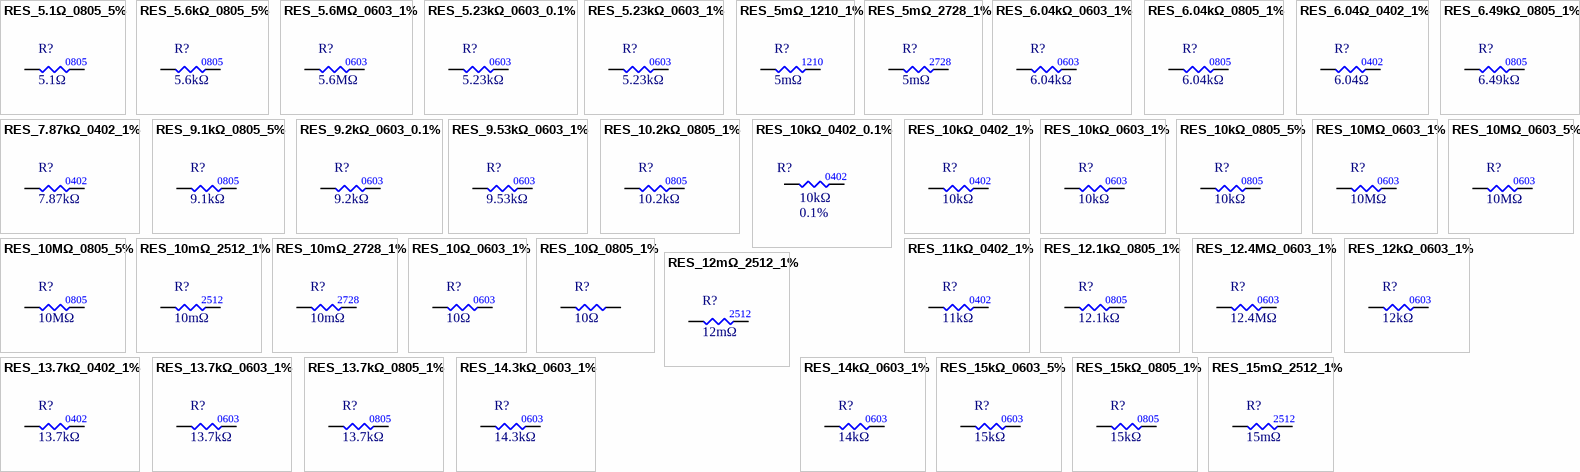
[diagram p22: symbols RES_5.1Ω_0805_5% to RES_15mΩ_2512_1%]

## RES_5.1Ω_0805_5%
designator R?  value 5.1Ω
RES 5.1 OHM 5% 1/8W 0805; Manufacturer 1: Panasonic; Manufacturer Part Number 1: ERJ-6GEYJ5R1V; Supplier 1: Digi-Key; Supplier Part Number 1: P5.1ACT-ND
footprint RES0805 (Chip Resistor, 2-Leads, Body 2.00x1.25mm, IPC High Density)
pins: 1, 2
1 alternate drawing of the same symbol
text: 0805

## RES_5.6kΩ_0805_5%
designator R?  value 5.6kΩ
RES 5.6K OHM 5% 1/8W 0805; Manufacturer 1: Yageo; Manufacturer Part Number 1: RC0805JR-075K6L; Supplier 1: Digi-Key; Supplier Part Number 1: 311-5.6KARCT-ND; Tolerance: 5%; Package: 0805
footprint RES0805 (Chip Resistor, 2-Leads, Body 2.00x1.25mm, IPC High Density)
pins: 1, 2
1 alternate drawing of the same symbol

## RES_5.6MΩ_0603_1%
designator R?  value 5.6MΩ
RES SMD 5.6M OHM 1% 1/10W 0603; Manufacturer 1: Vishay Dale; Manufacturer Part Number 1: CRCW06035M60FKEA; Supplier 1: Digi-Key; Supplier Part Number 1: 541-5.60MHCT-ND; Tolerance: 1%; Package: 0603
footprint RES0603 (Chip Resistor, Body 1.6x0.8mm, IPC Medium Density)
pins: 1, 2
1 alternate drawing of the same symbol

## RES_5.23kΩ_0603_0.1%
designator R?  value 5.23kΩ
RES SMD 5.23KOHM 0.1% 1/10W 0603; Manufacturer 1: YAGEO; Manufacturer Part Number 1: RT0603BRE075K23L; Mounting Type: SMD; Package: 0603; Supplier 1: Digi-Key; Supplier Part Number 1: YAG4758CT-ND
footprint RES0603 (Chip Resistor, Body 1.6x0.8mm, IPC Medium Density)
pins: 1, 2

## RES_5.23kΩ_0603_1%
designator R?  value 5.23kΩ
RES 5.23K OHM 1% 1/10W 0603; Manufacturer 1: YAGEO; Manufacturer Part Number 1: RC0603FR-075K23L; Mounting Type: SMD; Package: 0603; Supplier 1: Digi-Key; Supplier Part Number 1: 311-5.23KHRCT-ND
footprint RES0603 (Chip Resistor, Body 1.6x0.8mm, IPC Medium Density)
pins: 1, 2

## RES_5mΩ_1210_1%
designator R?  value 5mΩ
RES 0.005 OHM 1% 1W 1210; Manufacturer 1: Rohm Semiconductor; Manufacturer Part Number 1: PMR25HZPFU5L00; Package/Footprint: 1210; Mounting Type: SMD; Supplier 1: Digi-Key; Supplier Part Number 1: RHM.005APCT-ND
footprint RES1210 (Chip Resistor, Body 3.20x2.50mm)
pins: 1, 2

## RES_5mΩ_2728_1%
designator R?  value 5mΩ
RES 0.005 OHM 1% 4W 2827; Manufacturer 1: Stackpole Electronics Inc; Manufacturer Part Number 1: CSSH2728FT5L00; Package/Footprint: 2728; Mounting Type: SMD; Supplier 1: Digi-Key; Supplier Part Number 1: CSSH2728FT5L00CT-ND
footprint STA_CSSH2728_STP-M
pins: 1, 2

## RES_6.04kΩ_0603_1%
designator R?  value 6.04kΩ
RES 6.04K OHM 1% 1/10W 0603; Manufacturer 1: Panasonic Electronic Components; Manufacturer Part Number 1: ERJ-PB3D6041V; Package/Footprint: 0603; Mounting Type: SMD; Supplier 1: Digi-Key; Supplier Part Number 1: P20372CT-ND
footprint RES0603 (Chip Resistor, Body 1.6x0.8mm, IPC Medium Density)
pins: 1, 2

## RES_6.04kΩ_0805_1%
designator R?  value 6.04kΩ
RES 6.04K OHM 1% 1/8W 0805; Manufacturer 1: Yageo; Manufacturer Part Number 1: RC0805FR-076K04L; Package/Footprint: 0805; Mounting Type: SMD; Supplier 1: Digi-Key; Supplier Part Number 1: 311-6.04KCRCT-ND
footprint RES0805 (Chip Resistor, 2-Leads, Body 2.00x1.25mm, IPC High Density)
pins: 1, 2

## RES_6.04Ω_0402_1%
designator R?  value 6.04Ω
RES 6.04 OHM 1% 1/16W 0402; Manufacturer Part Number 1: RMCF0402FT6R04; Manufacturer 1: Stackpole Electronics Inc; Power: 0.063W, 1/16W; Supplier 1: Digi-Key; Supplier Part Number 1: RMCF0402FT6R04CT-ND; Mounting Type: SMD; Package: 0402; Tolerance: 1%
footprint RES0402 (Chip Resistor, Body 1x0.5mm, IPC Medium Density)
pins: 1, 2

## RES_6.49kΩ_0805_1%
designator R?  value 6.49kΩ
RES 6.49K OHM 1% 1/8W 0805; Manufacturer 1: Yageo; Manufacturer Part Number 1: RC0805FR-076K49L; Package/Footprint: 0805; Mounting Type: SMD; Supplier 1: Digi-Key; Supplier Part Number 1: 311-6.49KCRCT-ND
footprint RES0805 (Chip Resistor, 2-Leads, Body 2.00x1.25mm, IPC High Density)
pins: 1, 2

## RES_7.87kΩ_0402_1%
designator R?  value 7.87kΩ
RES 7.87K OHM 1% 1/16W 0402; Manufacturer Part Number 1: RMCF0402FT7K87; Manufacturer 1: Vishay Dale; Power: 0.063W, 1/16W; Supplier 1: Digi-Key; Supplier Part Number 1: RMCF0402FT7K87CT-ND; Mounting Type: SMD; Package: 0402; Tolerance: 1%
footprint RES0402 (Chip Resistor, Body 1x0.5mm, IPC Medium Density)
pins: 1, 2

## RES_9.1kΩ_0805_5%
designator R?  value 9.1kΩ
RES 9.1K OHM 5% 1/8W 0805; Manufacturer 1: Yageo; Manufacturer Part Number 1: RC0805JR-079K1L; Supplier 1: Digi-Key; Supplier Part Number 1: 311-9.1KARCT-ND; Tolerance: 5%; Package: 0805
footprint RES0805 (Chip Resistor, 2-Leads, Body 2.00x1.25mm, IPC High Density)
pins: 1, 2
1 alternate drawing of the same symbol

## RES_9.2kΩ_0603_0.1%
designator R?  value 9.2kΩ
RES 9.2K OHM 0.1% 1/10W 0603; Manufacturer 1: YAGEO; Manufacturer Part Number 1: RT0603BRD079K2L; Supplier Part Number 1: 13-RT0603BRD079K2LCT-ND; Supplier 1: Digi-Key
footprint RES0603 (Chip Resistor, Body 1.6x0.8mm, IPC Medium Density)
pins: 1, 2
text: 0603

## RES_9.53kΩ_0603_1%
designator R?  value 9.53kΩ
RES 9.53K OHM 1% 1/10W 0603; Manufacturer 1: Stackpole Electronics Inc; Manufacturer Part Number 1: RC0603FR-079K53L; Supplier Part Number 1: 311-9.53KHRCT-ND; Supplier 1: Digi-Key; Mounting Type: SMD; Package: 0603
footprint RES0603 (Chip Resistor, Body 1.6x0.8mm, IPC Medium Density)
pins: 1, 2

## RES_10.2kΩ_0805_1%
designator R?  value 10.2kΩ
RES 10.2K OHM 1% 1/8W 0805; Manufacturer 1: Vishay; Manufacturer Part Number 1: CRCW080510K2FKEA; Package/Footprint: 0805; Supplier 1: Digi-Key; Supplier Part Number 1: 541-10.2KCCT-ND; LCSC Part #: C17402; Mounting Type: SMD
pins: 1, 2

## RES_10kΩ_0402_0.1%
designator R?  value 10kΩ  Tolerance: 0.1%
RES 10K OHM 0.1% 1/16W 0402; Parameter 1: Digi-Key; Parameter 2: RNCF0402BTE10K0CT-ND; Parameter 3: Stackpole Electronics Inc; Parameter 4: RNCF0402BTE10K0; Package: 0402
pins: 1, 2

## RES_10kΩ_0402_1%
designator R?  Resistance: 10kΩ
RES 10K OHM 1% 1/16W 0402; Manufacturer 1: Samsung Electro-Mechanics; Manufacturer Part Number 1: RC1005F103CS; Supplier 1: Digi-Key; Supplier Part Number 1: 1276-3431-1-ND; Package: 0402; Tolerance: 1%
footprint RES0402 (Chip Resistor, Body 1x0.5mm, IPC Medium Density)
pins: 1, 2

## RES_10kΩ_0603_1%
designator R?  value 10kΩ
RES 10K OHM 1% 1/8W 0603; Manufacturer 1: Stackpole Electronics Inc; Manufacturer Part Number 1: RNCP0603FTD10K0; Supplier Part Number 1: RNCP0603FTD10K0CT-ND; Supplier 1: Digi-Key; Mounting Type: SMD; Package: 0603
footprint RES0603 (Chip Resistor, Body 1.6x0.8mm, IPC Medium Density)
pins: 1, 2

## RES_10kΩ_0805_5%
designator R?  value 10kΩ
RES 10K OHM 5% 1/8W 0805; Manufacturer 1: Panasonic Electronic Components; Manufacturer Part Number 1: ERJ-6GEYJ103V; Package/Footprint: 0805; Supplier 1: Digi-Key; Supplier Part Number 1: P10KACT-ND; LCSC Part #: C17414; Mounting Type: SMD
footprint RES0805 (Chip Resistor, 2-Leads, Body 2.00x1.25mm, IPC High Density)
pins: 1, 2

## RES_10MΩ_0603_1%
designator R?  value 10MΩ
RES 10M OHM 1% 1/10W 0603; Manufacturer 1: YAGEO; Manufacturer Part Number 1: RC0603FR-0710ML; Supplier 1: Digi-Key; Supplier Part Number 1: 311-10.0MHRCT-ND
footprint RES0603 (Chip Resistor, Body 1.6x0.8mm, IPC Medium Density)
pins: 1, 2
text: 0603

## RES_10MΩ_0603_5%
designator R?  value 10MΩ
RES 10M OHM 5% 1/10W 0603; Manufacturer 1: Vishay Dale; Manufacturer Part Number 1: CRCW060310M0JNEA; Supplier Part Number 1: 541-10MGCT-ND; Supplier 1: Digi-Key
footprint RES0603 (Chip Resistor, Body 1.6x0.8mm, IPC Medium Density)
pins: 1, 2
text: 0603

## RES_10MΩ_0805_5%
designator R?  value 10MΩ
RES 10M OHM 5% 1/8W 0805; Manufacturer 1: Yageo; Manufacturer Part Number 1: RC0805JR-0710ML; Supplier Part Number 1: 311-10MARCT-ND; Supplier 1: Digi-Key
footprint RES0805 (Chip Resistor, 2-Leads, Body 2.00x1.25mm, IPC High Density)
pins: 1, 2
text: 0805

## RES_10mΩ_2512_1%
designator R?  value 10mΩ
RES 10 mOHM 1% 2W 2512; Manufacturer 1: Yageo; Manufacturer Part Number 1: PE2512FKE7W0R01L; Supplier 1: Digi-Key; Supplier Part Number 1: YAG2167CT-ND
footprint RESC6532X75N
pins: 1, 2
text: 2512

## RES_10mΩ_2728_1%
designator R?  value 10mΩ
RES 10mOHM 1% 4W 2728; Manufacturer 1: Yageo; Manufacturer Part Number 1: RC0603FR-07698KL; Supplier Part Number 1: CSSH2728FT10L0DKR-ND; Supplier 1: Digi-Key
footprint STAC-CSS2725-099H_V (Chip Resistor, 2-Leads, Body 7.06x6.7mm)
pins: 1, 2
text: 2728

## RES_10Ω_0603_1%
designator R?  value 10Ω
RES 10 OHM 1% 1/10W 0603; Manufacturer 1: Vishay Dale; Manufacturer Part Number 1: CRCW060310R0FKEA; Supplier Part Number 1: 541-10.0HCT-ND; Supplier 1: Digi-Key
footprint RES0603 (Chip Resistor, Body 1.6x0.8mm, IPC Medium Density)
pins: 1, 2
text: 0603

## RES_10Ω_0805_1%
designator R?  value 10Ω
RES 10 OHM 1% 1/8W 0805; Manufacturer 1: Yageo; Manufacturer Part Number 1: RC0805FR-0710RL; Supplier Part Number 1: 311-10.0CRCT-ND; Supplier 1: Digi-Key; Mounting Type: SMD; LCSC Part #: C17415; Package: 0805
footprint RES0805 (Chip Resistor, 2-Leads, Body 2.00x1.25mm, IPC High Density)
pins: 1, 2

## RES_11kΩ_0402_1%
designator R?  value 11kΩ
RES 11K OHM 1% 1/16W 0402; Manufacturer Part Number 1: RMCF0402FT11K0; Manufacturer 1: Stackpole Electronics Inc; Power: 0.063W, 1/16W; Package/Footprint: 0402; Supplier 1: Digi-Key; Supplier Part Number 1: RMCF0402FT11K0CT-ND; Mounting Type: SMD; Tolerance: 1%
footprint RES0402 (Chip Resistor, Body 1x0.5mm, IPC Medium Density)
pins: 1, 2

## RES_12.1kΩ_0805_1%
designator R?  value 12.1kΩ
RES 12.1K OHM 1% 1/4W 0805; Manufacturer 1: Stackpole Electronics Inc; Manufacturer Part Number 1: RNCP0805FTD12K1; Supplier 1: Digi-Key; Supplier Part Number 1: RNCP0805FTD12K1CT-ND; Package: 0805
footprint RES0805 (Chip Resistor, 2-Leads, Body 2.00x1.25mm, IPC High Density)
pins: 1, 2

## RES_12.4MΩ_0603_1%
designator R?  value 12.4MΩ
RES 12.4MΩ ±1% 100mW 0603; Manufacturer Part Number 1: 0603WAF1245T5E; Manufacturer 1: UNI-ROYAL; Supplier Part Number 1: C422995; Supplier 1: LCSC
footprint RES0603 (Chip Resistor, Body 1.6x0.8mm, IPC Medium Density)
pins: 1, 2
text: 0603

## RES_12kΩ_0603_1%
designator R?  value 12kΩ
RES 12K OHM 1% 1/10W 0603; Manufacturer 1: Vishay Dale; Manufacturer Part Number 1: CRCW060312K0FKEAC; Power: 0.1W; Supplier Part Number 1: 541-4046-1-ND; Supplier 1: Digi-Key; Package: 0603; Tolerance: 1%
footprint RES0603 (Chip Resistor, Body 1.6x0.8mm, IPC Medium Density)
pins: 1, 2

## RES_12mΩ_2512_1%
designator R?  value 12mΩ
RES 12 mOHM 1% 2W 2512; Manufacturer 1: Yageo; Manufacturer Part Number 1: PE2512FKE7W0R012L; Supplier 1: Digi-Key; Supplier Part Number 1: YAG2164CT-ND
footprint RESC6532X75N
pins: 1, 2
text: 2512

## RES_13.7kΩ_0402_1%
designator R?  value 13.7kΩ
RES 13.7K OHM 1% 1/16W 0402; Manufacturer Part Number 1: RC0402FR-0713K7L; Manufacturer 1: Yageo; Power: 0.063W, 1/16W; Package/Footprint: 0402; Supplier 1: Digi-Key; Supplier Part Number 1: 311-13.7KLRCT-ND; Mounting Type: SMD; Tolerance: 1%
footprint RES0402 (Chip Resistor, Body 1x0.5mm, IPC Medium Density)
pins: 1, 2

## RES_13.7kΩ_0603_1%
designator R?  value 13.7kΩ
RES 13.7K OHM 1% 1/10W 0603; Manufacturer 1: Yageo; Manufacturer Part Number 1: RC0603FR-0713K7L; Supplier 1: Digi-Key; Supplier Part Number 1: 311-13.7KHRCT-ND
footprint RES0603 (Chip Resistor, Body 1.6x0.8mm, IPC Medium Density)
pins: 1, 2
text: 0603

## RES_13.7kΩ_0805_1%
designator R?  value 13.7kΩ
RES 13.7K OHM 1% 1/8W 0805; Manufacturer 1: Vishay; Manufacturer Part Number 1: CRCW080513K7FKEA; Supplier 1: Digi-Key; Supplier Part Number 1: 541-13.7KCCT-ND; LCSC Part #: C17448; Mounting Type: SMD; Package: 0805
footprint RES0805 (Chip Resistor, 2-Leads, Body 2.00x1.25mm, IPC High Density)
pins: 1, 2

## RES_14.3kΩ_0603_1%
designator R?  value 14.3kΩ
RES 14.3K OHM 1% 1/10W 0603; Manufacturer 1: Yageo; Manufacturer Part Number 1: RC0603FR-0714K3L; Package/Footprint: 0603; Supplier Part Number 1: 311-14.3KHRCT-ND; Supplier 1: Digi-Key; Mounting Type: SMD
footprint RES0603 (Chip Resistor, Body 1.6x0.8mm, IPC Medium Density)
pins: 1, 2

## RES_14kΩ_0603_1%
designator R?  value 14kΩ
RES 14K OHM 1% 1/10W 0603; Manufacturer 1: Yageo; Manufacturer Part Number 1: RC0603FR-0714KL; Supplier Part Number 1: 311-14.0KHRCT-ND; Supplier 1: Digi-Key
footprint RES0603 (Chip Resistor, Body 1.6x0.8mm, IPC Medium Density)
pins: 1, 2
text: 0603

## RES_15kΩ_0603_5%
designator R?  value 15kΩ
RES 15K OHM 5% 1/10W 0603; Manufacturer 1: Yageo; Manufacturer Part Number 1: RC0603JR-0715KL; Supplier Part Number 1: 311-15KGRCT-ND; Supplier 1: Digi-Key
footprint RES0603 (Chip Resistor, Body 1.6x0.8mm, IPC Medium Density)
pins: 1, 2
text: 0603

## RES_15kΩ_0805_1%
designator R?  value 15kΩ
RES 15K OHM 1% 1/8W 0805 /; Manufacturer 1: Vishay Dale; Manufacturer Part Number 1: CRCW080515K0FKEA; Supplier Part Number 1: 541-15.0KCCT-ND; Supplier 1: Digi-Key
footprint RES0805 (Chip Resistor, 2-Leads, Body 2.00x1.25mm, IPC High Density)
pins: 1, 2
text: 0805

## RES_15mΩ_2512_1%
designator R?  value 15mΩ
RES 15 mOHM 1% 2W 2512; Manufacturer 1: Yageo; Manufacturer Part Number 1: PE2512FKE7W0R015L; Supplier 1: Digi-Key; Supplier Part Number 1: YAG2165CT-ND
footprint RESC6532X75N
pins: 1, 2
text: 2512

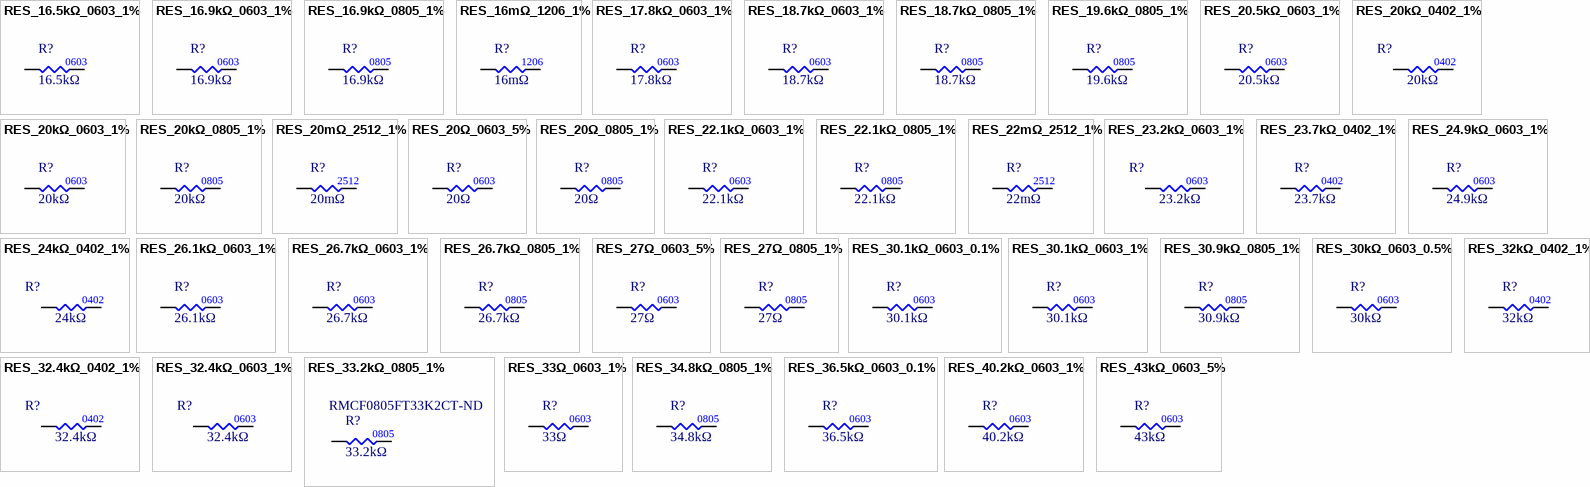
[diagram p23: symbols RES_16.5kΩ_0603_1% to RES_43kΩ_0603_5%]

## RES_16.5kΩ_0603_1%
designator R?  value 16.5kΩ
RES 16.5K OHM 1% 1/10W 0603; Manufacturer 1: Yageo; Manufacturer Part Number 1: RC0603FR-0716K5L; Supplier 1: Digi-Key; Supplier Part Number 1: 311-16.5KHRCT-ND
footprint RES0603 (Chip Resistor, Body 1.6x0.8mm, IPC Medium Density)
pins: 1, 2
text: 0603

## RES_16.9kΩ_0603_1%
designator R?  value 16.9kΩ
RES 16.9K OHM 1% 1/10W 0603; Manufacturer 1: Yageo; Manufacturer Part Number 1: RC0603FR-0716K9L; Supplier 1: Digi-Key; Supplier Part Number 1: 311-16.9KHRCT-ND
footprint RES0603 (Chip Resistor, Body 1.6x0.8mm, IPC Medium Density)
pins: 1, 2
text: 0603

## RES_16.9kΩ_0805_1%
designator R?  value 16.9kΩ
RES 16.9K OHM 1% 1/8W 0805; Manufacturer 1: Yageo; Manufacturer Part Number 1: RC0805FR-0716K9L; Supplier 1: Digi-Key; Supplier Part Number 1: 311-16.9KCRCT-ND; Mounting Type: SMD; LCSC Part #: C17484; Package: 0805
footprint RES0805 (Chip Resistor, 2-Leads, Body 2.00x1.25mm, IPC High Density)
pins: 1, 2

## RES_16mΩ_1206_1%
designator R?  value 16mΩ
RES 16 mOHM 1W 1206 WIDE; Manufacturer 1: Susumu; Manufacturer Part Number 1: PRL1632-R016-F-T1; Supplier 1: Digi-Key; Supplier Part Number 1: PRL1632.016FCT-ND
footprint RES0603 (Chip Resistor, Body 1.6x0.8mm, IPC Medium Density)
pins: 1, 2
text: 1206

## RES_17.8kΩ_0603_1%
designator R?  value 17.8kΩ
RES 17.8K OHM 1% 1/10W 0603; Manufacturer 1: YAGEO; Manufacturer Part Number 1: RC0603FR-0717K8L; Supplier Part Number 1: 311-17.8KHRCT-ND; Supplier 1: Digi-Key
footprint RES0603 (Chip Resistor, Body 1.6x0.8mm, IPC Medium Density)
pins: 1, 2
text: 0603

## RES_18.7kΩ_0603_1%
designator R?  value 18.7kΩ
RES 18.7K OHM 1% 1/10W 0603; Manufacturer 1: Vishay Dale; Manufacturer Part Number 1: CRCW060318K7FKEA; Supplier Part Number 1: 541-18.7KHCT-ND; Supplier 1: Digi-Key
footprint RES0603 (Chip Resistor, Body 1.6x0.8mm, IPC Medium Density)
pins: 1, 2
text: 0603

## RES_18.7kΩ_0805_1%
designator R?  value 18.7kΩ
RES 18.7K OHM 1% 1/8W 0805 /; Manufacturer 1: Yageo; Manufacturer Part Number 1: RC0805FR-0718K7L; Package/Footprint: 0805; Supplier Part Number 1: 311-18.7KCRCT-ND; Mounting Type: SMD; Supplier 1: Digi-Key; LCSC Part #: C17499
footprint RES0805 (Chip Resistor, 2-Leads, Body 2.00x1.25mm, IPC High Density)
pins: 1, 2

## RES_19.6kΩ_0805_1%
designator R?  value 19.6kΩ
RES SMD 19.6K OHM 1% 1/8W 0805; Manufacturer 1: Yageo; Manufacturer Part Number 1: AC0805FR-0719K6L; Package/Footprint: 0805; Supplier 1: Digi-Key; Mounting Type: SMD; Supplier Part Number 1: YAG5355CT-ND
footprint RES0805 (Chip Resistor, 2-Leads, Body 2.00x1.25mm, IPC High Density)
pins: 1, 2

## RES_20.5kΩ_0603_1%
designator R?  value 20.5kΩ
RES SMD 20.5K OHM 1% 1/10W 0603; Manufacturer 1: Panasonic Electronic Components; Manufacturer Part Number 1: ERJ-3EKF2052V; Supplier 1: Digikey; Supplier Part Number 1: P2.05KHCT-ND
footprint RES0603 (Chip Resistor, Body 1.6x0.8mm, IPC Medium Density)
pins: 1, 2
text: 0603

## RES_20kΩ_0402_1%
designator R?  value 20kΩ
RES 20K OHM 1% 1/16W 0402; Manufacturer Part Number 1: RC0402FR-0720KL; Manufacturer 1: Yageo; Power: 0.063W, 1/16W; Supplier 1: Digi-Key; Supplier Part Number 1: 311-20.0KLRCT-ND; Mounting Type: SMD; Package: 0402; Tolerance: 1%
footprint RES0402 (Chip Resistor, Body 1x0.5mm, IPC Medium Density)
pins: 1, 2

## RES_20kΩ_0603_1%
designator R?  value 20kΩ
RES 20K OHM 1% 1/10W 0603; Manufacturer 1: Yageo; Manufacturer Part Number 1: RC0603FR-0720KL; Supplier Part Number 1: 311-20.0KHRCT-ND; Supplier 1: Digi-Key
footprint RES0603 (Chip Resistor, Body 1.6x0.8mm, IPC Medium Density)
pins: 1, 2
text: 0603

## RES_20kΩ_0805_1%
designator R?  value 20kΩ
RES 20K OHM 1% 1/8W 0805; Manufacturer 1: Yageo; Manufacturer Part Number 1: RC0805FR-0720KL; Package/Footprint: 0805; Supplier 1: Digi-Key; Mounting Type: SMD; Supplier Part Number 1: 311-20.0KCRCT-ND; LCSC Part #: C4328
footprint RES0805 (Chip Resistor, 2-Leads, Body 2.00x1.25mm, IPC High Density)
pins: 1, 2

## RES_20mΩ_2512_1%
designator R?  value 20mΩ
RES 0.02 OHM 1% 3W 2512; Manufacturer 1: Riedon; Manufacturer Part Number 1: CSRL3-0R02F8; Supplier 1: Digi-Key; Supplier Part Number 1: 696-1840-1-ND; Mounting Type: Surface Mount; Package: 2512
footprint RESC6532X75N
pins: 1, 2

## RES_20Ω_0603_5%
designator R?  value 20Ω
RES 20 OHM 5% 1/10W 0603; Manufacturer 1: Yageo; Manufacturer Part Number 1: RC0603JR-0720RL; Supplier Part Number 1: 311-20GRCT-ND; Supplier 1: Digi-Key; Mounting Type: SMD; Package: 0603
footprint RES0603 (Chip Resistor, Body 1.6x0.8mm, IPC Medium Density)
pins: 1, 2